# Altium schematic symbol library TLV760.SchLib: 1 symbol
Pins are listed as number, name and electrical type; pins without a type are passive.

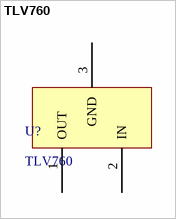
[diagram p0: symbol TLV760]

## TLV760
designator U?
footprint SOT23-3N (3x1.3x1mm(长宽高))
pins: 1 OUT, 2 IN, 3 GND